# EAGLE library part E18-MS1PA1 (library e18-ms1pa1-ipx)
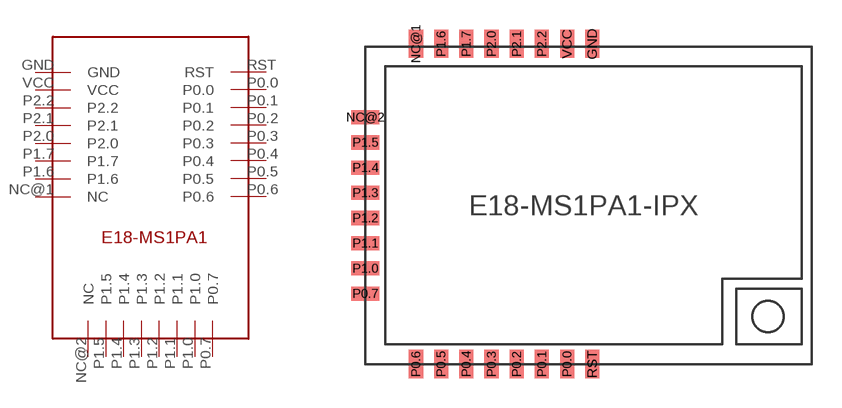
[diagram p0: symbol with the pads of E18-MS1PA1-IPX; footprint E18-MS1PA1-IPX]

Designator prefix -

## E18-MS1PA1IPX  [E18-MS1PA1-IPX]
GND  GND
NC@1  NC
NC@2  NC
P0.0  P0.0
P0.1  P0.1
P0.2  P0.2
P0.3  P0.3
P0.4  P0.4
P0.5  P0.5
P0.6  P0.6
P0.7  P0.7
P1.0  P1.0
P1.1  P1.1
P1.2  P1.2
P1.3  P1.3
P1.4  P1.4
P1.5  P1.5
P1.6  P1.6
P1.7  P1.7
P2.0  P2.0
P2.1  P2.1
P2.2  P2.2
RST  RST
VCC  VCC

## Footprint E18-MS1PA1-IPX (pad centres in mm)
smd 0.711 x 1.422: GND 11.44,16.14; NC@1 2.55,16.14; P0.0 10.17,0; P0.1 8.9,0; P0.2 7.63,0; P0.3 6.36,0; P0.4 5.09,0; P0.5 3.82,0; P0.6 2.55,0; P1.6 3.82,16.14; P1.7 5.09,16.14; P2.0 6.36,16.14; P2.1 7.63,16.14; P2.2 8.9,16.14; RST 11.44,0; VCC 10.17,16.14
smd 1.422 x 0.711: NC@2 0,12.44; P0.7 0,3.55; P1.0 0,4.82; P1.1 0,6.09; P1.2 0,7.36; P1.3 0,8.63; P1.4 0,9.9; P1.5 0,11.17